# Altium footprint library eecs5x.PcbLib: 161 footprints (part 6 of 11)
Each footprint in its own frame and in the unit in brackets; x right, y up, seen from the top. Pads: shape width x height; smd on the part's side, far side on the other; paste and mask are expansions set on the pad; w line width, h text height; cw(c..) or ccw(c..) is an arc to the next point about the centre after c.
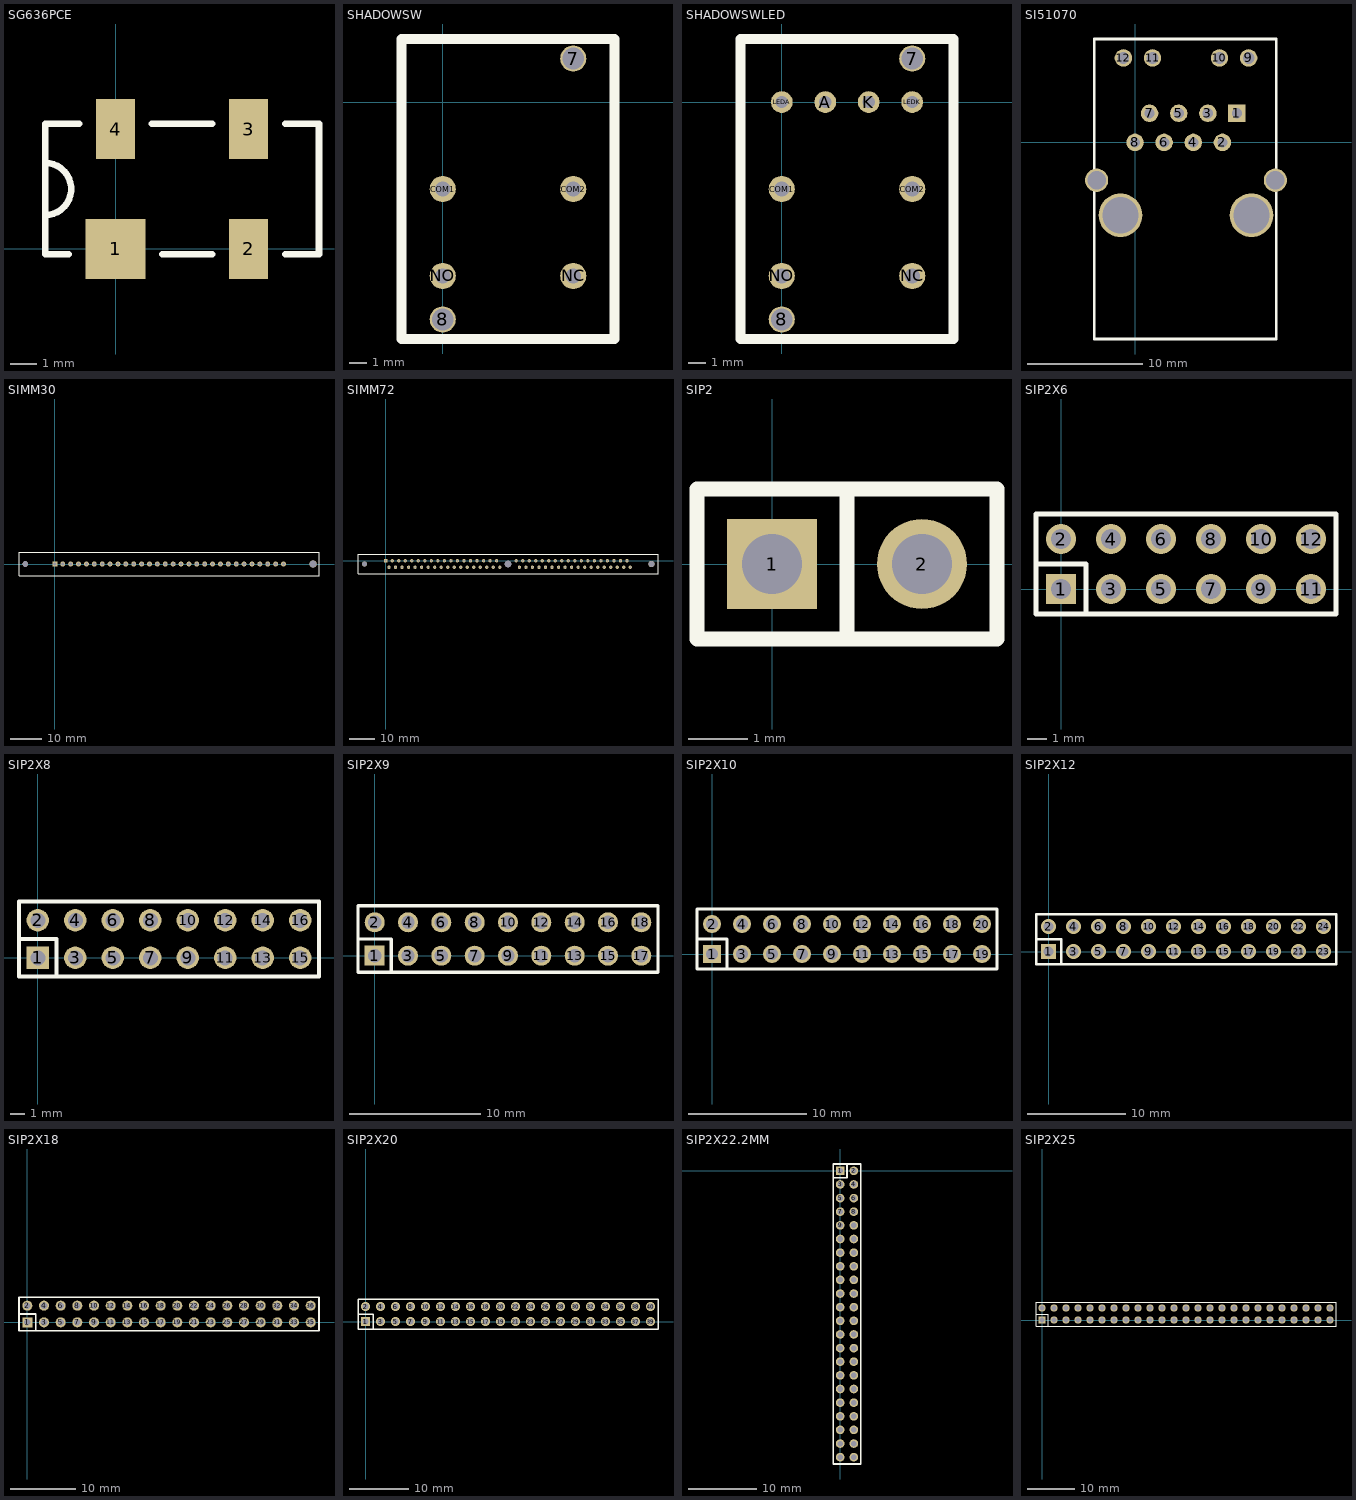
[diagram p5: the footprints below, top view; thin cyan lines are the x and y axes]

## SG636PCE [mm]
pads (4):
  rect 2.3x2.3 smd: 1(0,0)
  rect 1.5x2.3 smd: 2(5.1,0) 3(5.1,4.6) 4(0,4.6)
Top Overlay:
  lines w0.254: -2.7,1.3 ccw(c-2.7,2.3) -2.7,3.3 ; -1.8,-0.2 -2.7,-0.2 -2.7,4.8 -1.4,4.8 ; 1.4,4.8 3.7,4.8 ; 1.8,-0.2 3.7,-0.2 ; 6.5,-0.2 7.8,-0.2 7.8,4.8 6.5,4.8

## SHADOWSW [mil]
pads (6):
  round 60 hole 50: 7(300,100) 8(0,-500)
  round 60 hole 35: COM1(0,-200) COM2(300,-200) NC(300,-400) NO(0,-400)
Top Overlay:
  lines w24: -95,-545 -95,145 395,145 395,-545 -95,-545

## SHADOWSWLED [mil]
pads (10):
  round 60 hole 50: 7(300,100) 8(0,-500)
  round 50 hole 28: A(100,0) K(200,0) LEDA(0,0) LEDK(300,0)
  round 60 hole 35: COM1(0,-200) COM2(300,-200) NC(300,-400) NO(0,-400)
Top Overlay:
  lines w24: -95,-545 -95,145 395,145 395,-545 -95,-545

## SI51070 [mil]
pads (16):
  rect 60x60 hole 35: 1(350,100)
  round 60 hole 35: 2(300,0) 3(250,100) 4(200,0) 5(150,100) 6(100,0) 7(50,100) 8(0,0)
  round 60 hole 40: 9(390,290) 10(290,290) 11(60,290) 12(-40,290)
  round 80 hole 63: ""(-132,-130) ""(482,-130)
  round 150 hole 125: ""(-50,-250) ""(400,-250)
Top Overlay:
  lines w10: -140,-675 -140,355 485,355 485,-675 -140,-675

## SIMM30 [mil]
pads (32):
  rect 62x62 hole 42: 1(0,0)
  round 62 hole 42: 2(100,0) 3(200,0) 4(300,0) 5(400,0) 6(500,0) 7(600,0) 8(700,0) 9(800,0) 10(900,0) 11(1000,0) 12(1100,0) 13(1200,0) 14(1300,0) 15(1400,0) 16(1500,0) 17(1600,0) 18(1700,0) 19(1800,0) 20(1900,0) 21(2000,0) 22(2100,0) 23(2200,0) 24(2300,0) 25(2400,0) 26(2500,0) 27(2600,0) 28(2700,0) 29(2800,0) 30(2900,0)
  round 70 hole 70: ""(-375,0)
  round 92 hole 92: ""(3275,0)
Top Overlay:
  lines w12: -455,-150 -455,150 3350,150 3350,-150 -455,-150

## SIMM72 [mil]
pads (75):
  round 75 hole 75: 0(-325,-50)
  rect 50x50 hole 30: 1(0,0)
  round 50 hole 30: 2(50,-100) 3(100,0) 4(150,-100) 5(200,0) 6(250,-100) 7(300,0) 8(350,-100) 9(400,0) 10(450,-100) 11(500,0) 12(550,-100) 13(600,0) 14(650,-100) 15(700,0) 16(750,-100) 17(800,0) 18(850,-100) 19(900,0) 20(950,-100) 21(1000,0) 22(1050,-100) 23(1100,0) 24(1150,-100) 25(1200,0) 26(1250,-100) 27(1300,0) 28(1350,-100) 29(1400,0) 30(1450,-100) 31(1500,0) 32(1550,-100) 33(1600,0) 34(1650,-100) 35(1700,0) 36(1750,-100) 37(2000,0) 38(2050,-100) 39(2100,0) 40(2150,-100) 41(2200,0) 42(2250,-100) 43(2300,0) 44(2350,-100) 45(2400,0) 46(2450,-100) 47(2500,0) 48(2550,-100) 49(2600,0) 50(2650,-100) 51(2700,0) 52(2750,-100) 53(2800,0) 54(2850,-100) 55(2900,0) 56(2950,-100) 57(3000,0) 58(3050,-100) 59(3100,0) 60(3150,-100) 61(3200,0) 62(3250,-100) 63(3300,0) 64(3350,-100) 65(3400,0) 66(3450,-100) 67(3500,0) 68(3550,-100) 69(3600,0) 70(3650,-100) 71(3700,0) 72(3750,-100)
  round 100 hole 100: ""(1875,-50)
  round 95 hole 95: ""(4075,-50)
Top Overlay:
  lines w12: -425,-200 -425,100 4175,100 4175,-200 -425,-200

## SIP2 [mil]
pads (2):
  rect 60x60 hole 40: 1(0,0)
  round 60 hole 40: 2(100,0)
Top Overlay:
  lines w10: 50,-50 50,50 ; -50,-50 -50,50 150,50 150,-50 -50,-50

## SIP2X6 [mil]
pads (12):
  rect 60x60 hole 40: 1(0,0)
  round 60 hole 40: 2(0,100) 3(100,0) 4(100,100) 5(200,0) 6(200,100) 7(300,0) 8(300,100) 9(400,0) 10(400,100) 11(500,0) 12(500,100)
Top Overlay:
  lines w10: -50,50 50,50 50,-50 ; -50,-50 -50,150 550,150 550,-50 -50,-50

## SIP2X8 [mil]
pads (16):
  rect 60x60 hole 40: 1(0,0)
  round 60 hole 40: 2(0,100) 3(100,0) 4(100,100) 5(200,0) 6(200,100) 7(300,0) 8(300,100) 9(400,0) 10(400,100) 11(500,0) 12(500,100) 13(600,0) 14(600,100) 15(700,0) 16(700,100)
Top Overlay:
  lines w10: -50,50 50,50 50,-50 ; -50,-50 -50,150 750,150 750,-50 -50,-50

## SIP2X9 [mil]
pads (18):
  rect 60x60 hole 40: 1(0,0)
  round 60 hole 40: 2(0,100) 3(100,0) 4(100,100) 5(200,0) 6(200,100) 7(300,0) 8(300,100) 9(400,0) 10(400,100) 11(500,0) 12(500,100) 13(600,0) 14(600,100) 15(700,0) 16(700,100) 17(800,0) 18(800,100)
Top Overlay:
  lines w10: -50,50 50,50 50,-50 ; -50,-50 -50,150 850,150 850,-50 -50,-50

## SIP2X10 [mil]
pads (20):
  rect 60x60 hole 40: 1(0,0)
  round 60 hole 40: 2(0,100) 3(100,0) 4(100,100) 5(200,0) 6(200,100) 7(300,0) 8(300,100) 9(400,0) 10(400,100) 11(500,0) 12(500,100) 13(600,0) 14(600,100) 15(700,0) 16(700,100) 17(800,0) 18(800,100) 19(900,0) 20(900,100)
Top Overlay:
  lines w10: -50,50 50,50 50,-50 ; -50,-50 -50,150 950,150 950,-50 -50,-50

## SIP2X12 [mil]
pads (24):
  rect 60x60 hole 40: 1(0,0)
  round 60 hole 40: 2(0,100) 3(100,0) 4(100,100) 5(200,0) 6(200,100) 7(300,0) 8(300,100) 9(400,0) 10(400,100) 11(500,0) 12(500,100) 13(600,0) 14(600,100) 15(700,0) 16(700,100) 17(800,0) 18(800,100) 19(900,0) 20(900,100) 21(1000,0) 22(1000,100) 23(1100,0) 24(1100,100)
Top Overlay:
  lines w10: -50,50 50,50 50,-50 ; -50,-50 -50,150 1150,150 1150,-50 -50,-50

## SIP2X18 [mil]
pads (36):
  rect 60x60 hole 40: 1(0,0)
  round 60 hole 40: 2(0,100) 3(100,0) 4(100,100) 5(200,0) 6(200,100) 7(300,0) 8(300,100) 9(400,0) 10(400,100) 11(500,0) 12(500,100) 13(600,0) 14(600,100) 15(700,0) 16(700,100) 17(800,0) 18(800,100) 19(900,0) 20(900,100) 21(1000,0) 22(1000,100) 23(1100,0) 24(1100,100) 25(1200,0) 26(1200,100) 27(1300,0) 28(1300,100) 29(1400,0) 30(1400,100) 31(1500,0) 32(1500,100) 33(1600,0) 34(1600,100) 35(1700,0) 36(1700,100)
Top Overlay:
  lines w10: -50,50 50,50 50,-50 ; -50,-50 -50,150 1750,150 1750,-50 -50,-50

## SIP2X20 [mil]
pads (40):
  rect 60x60 hole 40: 1(0,0)
  round 60 hole 40: 2(0,100) 3(100,0) 4(100,100) 5(200,0) 6(200,100) 7(300,0) 8(300,100) 9(400,0) 10(400,100) 11(500,0) 12(500,100) 13(600,0) 14(600,100) 15(700,0) 16(700,100) 17(800,0) 18(800,100) 19(900,0) 20(900,100) 21(1000,0) 22(1000,100) 23(1100,0) 24(1100,100) 25(1200,0) 26(1200,100) 27(1300,0) 28(1300,100) 29(1400,0) 30(1400,100) 31(1500,0) 32(1500,100) 33(1600,0) 34(1600,100) 35(1700,0) 36(1700,100) 37(1800,0) 38(1800,100) 39(1900,0) 40(1900,100)
Top Overlay:
  lines w10: -50,50 50,50 50,-50 ; -50,-50 -50,150 1950,150 1950,-50 -50,-50

## SIP2X22.2MM [mm]
pads (44):
  rect 1.27x1.27 hole 0.813: 1(0,0)
  round 1.27 hole 0.813: 2(2,0) 3(0,-2) 4(2,-2) 5(0,-4) 6(2,-4) 7(0,-6) 8(2,-6) 9(0,-8) 10(2,-8) 11(0,-10) 12(2,-10) 13(0,-12) 14(2,-12) 15(0,-14) 16(2,-14) 17(0,-16) 18(2,-16) 19(0,-18) 20(2,-18) 21(0,-20) 22(2,-20) 23(0,-22) 24(2,-22) 25(0,-24) 26(2,-24) 27(0,-26) 28(2,-26) 29(0,-28) 30(2,-28) 31(0,-30) 32(2,-30) 33(0,-32) 34(2,-32) 35(0,-34) 36(2,-34) 37(0,-36) 38(2,-36) 39(0,-38) 40(2,-38) 41(0,-40) 42(2,-40) 43(0,-42) 44(2,-42)
Top Overlay:
  lines w0.254: -1,-1 1,-1 1,1 ; -1,-43 -1,1 3,1 3,-43 -1,-43

## SIP2X25 [mil]
pads (50):
  rect 60x60 hole 40: 1(0,0)
  round 60 hole 40: 2(0,100) 3(100,0) 4(100,100) 5(200,0) 6(200,100) 7(300,0) 8(300,100) 9(400,0) 10(400,100) 11(500,0) 12(500,100) 13(600,0) 14(600,100) 15(700,0) 16(700,100) 17(800,0) 18(800,100) 19(900,0) 20(900,100) 21(1000,0) 22(1000,100) 23(1100,0) 24(1100,100) 25(1200,0) 26(1200,100) 27(1300,0) 28(1300,100) 29(1400,0) 30(1400,100) 31(1500,0) 32(1500,100) 33(1600,0) 34(1600,100) 35(1700,0) 36(1700,100) 37(1800,0) 38(1800,100) 39(1900,0) 40(1900,100) 41(2000,0) 42(2000,100) 43(2100,0) 44(2100,100) 45(2200,0) 46(2200,100) 47(2300,0) 48(2300,100) 49(2400,0) 50(2400,100)
Top Overlay:
  lines w10: -50,50 50,50 50,-50 ; -50,-50 -50,150 2450,150 2450,-50 -50,-50